# Altium footprint library IND-0402.PcbLib: 1 footprints
Each footprint in its own frame and in the unit in brackets; x right, y up, seen from the top. Pads: shape width x height; smd on the part's side, far side on the other; paste and mask are expansions set on the pad; w line width, h text height; cw(c..) or ccw(c..) is an arc to the next point about the centre after c.
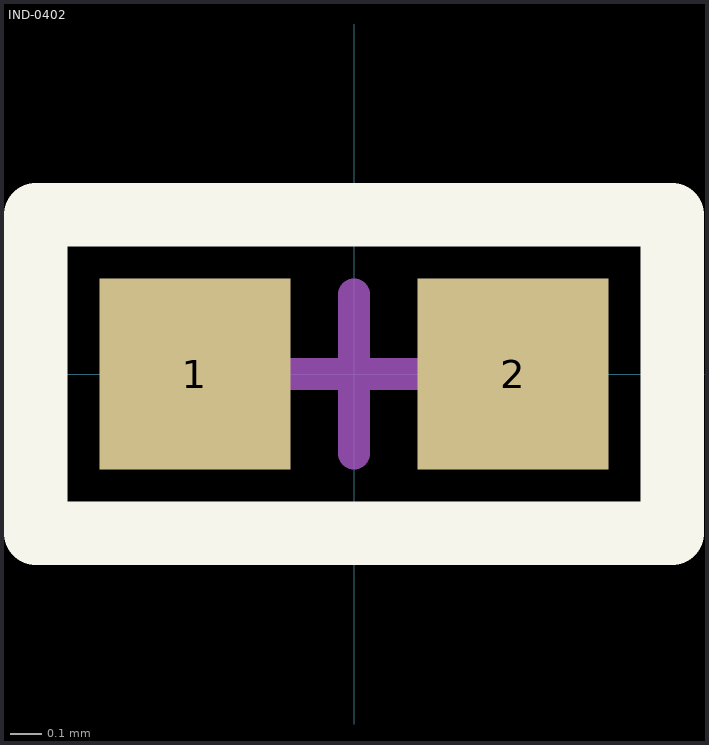
[diagram p0: the footprint, top view; thin cyan lines are the x and y axes]

## IND-0402 [mm]
height 0.55
pads (2):
  rect 0.6x0.6 smd: 1(-0.5,0) 2(0.5,0)
Top Overlay:
  lines w0.2: -1,-0.5 1,-0.5 1,0.5 -1,0.5 -1,-0.5
Top Assembly:
  lines w0.1: -0.25,0 0.25,0 ; 0,-0.25 0,0.25 ; -1,-0.5 1,-0.5 1,0.5 -1,0.5 -1,-0.5
  text "'.Designator'" at 0,0 h0.7
3D body "User Library-Chip Inductor.STEP": height 0.49, standoff -0.01, extent -0.5,-0.3 0.5,0.3